# Altium integrated library My_Miscellaneous Connectors.IntLib: 31 symbols
Pins are listed as number, name and electrical type; pins without a type are passive.

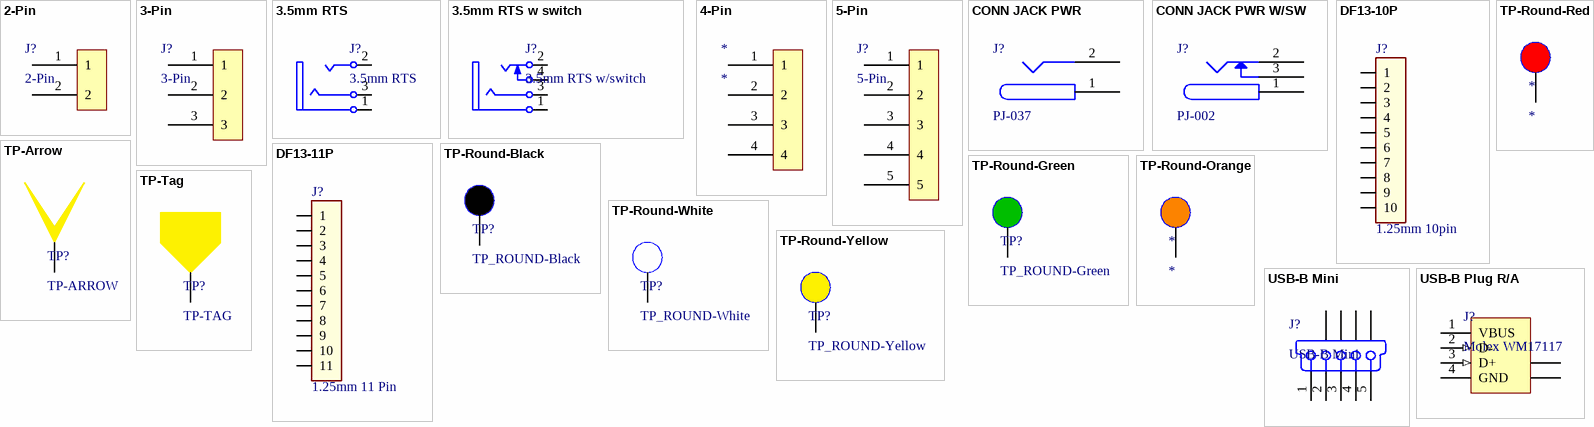
[diagram p0: symbols 2-Pin to USB-B Plug R/A]

## 2-Pin
designator J?
footprint PHOENIX2X0.2
footprint PHOENIX2X0.2LGPINS
footprint WIRES-2
footprint DF13-2P
footprint DF3A-2P
footprint PHOENIX2X0.1 (2 pin 0.1in lead spacing wire to board connector)
pins: 1 "Pin 1", 2 "Pin 2"

## 3-Pin
designator J?
footprint PHOENIX3X0.2
footprint PHOENIX3X0.2LGPINS
footprint DF3A-3P
pins: 1 "Pin 1", 2 "Pin 2", 3 "Pin 3"

## 3.5mm RTS
designator J?
footprint 3.5MM-SM-3PAD
pins: 1 GND "Sleeve (Ground)", 2 Tip "Tip/Left Channel/(+)", 3 Ring "Ring/Right Channel/(-)"

## 3.5mm RTS w switch
designator J?, comment 3.5mm RTS w/switch
footprint 3.5mm-SM-4PAD (3.5mm RTS + SW)
pins: 1 GND "Sleeve (Ground)", 2 Tip "Tip/Left Channel/(+)", 3 Ring "Ring/Right Channel/(-)", 4 SW "Tip Normal (Break Contact)"

## 4-Pin
designator *
footprint PHOENIX4X0.2LGPINSRTL (4 Pin Right Angle Male Rect Phoenix)
pins: 1 "Pin 1", 2 "Pin 2", 3 "Pin 3", 4 "Pin 4"

## 5-Pin
designator J?
footprint DF3A-5P
pins: 1 "Pin 1", 2 "Pin 2", 3 "Pin 3", 4 "Pin 4", 5 "Pin 5"

## CONN JACK PWR
designator J?, comment PJ-037
footprint PJ-037
pins: 1, 2

## CONN JACK PWR W/SW
designator J?, comment PJ-002
footprint PJ-002
pins: 1, 2, 3

## DF13-10P
designator J?, comment 1.25mm 10pin
footprint DF13-10P
pins: 1, 2, 3, 4, 5, 6, 7, 8, 9, 10

## DF13-11P
designator J?, comment 1.25mm 11 Pin
footprint DF13-11P
pins: 1, 2, 3, 4, 5, 6, 7, 8, 9, 10, 11

## TP-Arrow
designator TP?, comment TP-ARROW
footprint TP-.038 (Test Point with 38 mil hole)
footprint TP-.050 (Test Point with 50mil hole)
footprint TP-.063 (Test Point with 63 mil hole)
pins: 1 "Pin 1"

## TP-Round-Black
designator TP?, comment TP_ROUND-Black
footprint TP-.038 (Test Point with 38 mil hole)
footprint TP-.050 (Test Point with 50mil hole)
footprint TP-.063 (Test Point with 63 mil hole)
pins: 1 "Pin 1"

## TP-Round-Green
designator TP?, comment TP_ROUND-Green
footprint TP-.038 (Test Point with 38 mil hole)
footprint TP-.050 (Test Point with 50mil hole)
footprint TP-.063 (Test Point with 63 mil hole)
pins: 1 "Pin 1"

## TP-Round-Orange
designator *
footprint TP-.038 (Test Point with 38 mil hole)
footprint TP-.050 (Test Point with 50mil hole)
footprint TP-.063 (Test Point with 63 mil hole)
pins: 1 "Pin 1"

## TP-Round-Red
designator *
footprint TP-.063 (Test Point with 63 mil hole)
footprint TP-.038 (Test Point with 38 mil hole)
footprint TP-.050 (Test Point with 50mil hole)
pins: 1 "Pin 1"

## TP-Round-White
designator TP?, comment TP_ROUND-White
footprint TP-.038 (Test Point with 38 mil hole)
footprint TP-.050 (Test Point with 50mil hole)
footprint TP-.063 (Test Point with 63 mil hole)
pins: 1 "Pin 1"

## TP-Round-Yellow
designator TP?, comment TP_ROUND-Yellow
footprint TP-.038 (Test Point with 38 mil hole)
footprint TP-.050 (Test Point with 50mil hole)
footprint TP-.063 (Test Point with 63 mil hole)
pins: 1 "Pin 1"

## TP-Tag
designator TP?, comment TP-TAG
footprint TP-.038 (Test Point with 38 mil hole)
footprint TP-.050 (Test Point with 50mil hole)
footprint TP-.063 (Test Point with 63 mil hole)
pins: 1 "Pin 1"

## USB-B Mini
designator J?
footprint USB-B-Mini
pins: 1 V BUS (5V) "USB Vcc [Red]", 2 D- "USB Data - [White]", 3 D+ "USB Data + [Green]", 4 NC "Not Connected (or joined to pin 5 via resistor)", 5 GND "Ground [Black]", MH Tab "Shell", MH Tab "Shell", MH Tab "Shell", MH Tab "Shell"

## USB-B Plug R/A
designator J?, comment Molex WM17117
footprint USB-B Plug (USB B Plug Right Angle)
pins: 1 VBUS (power) "Power", 2 D- (in) "-DATA", 3 D+ (in) "+DATA", 4 GND (power) "Ground", 5 SHLD "Shield", 6 SHLD "Shield"


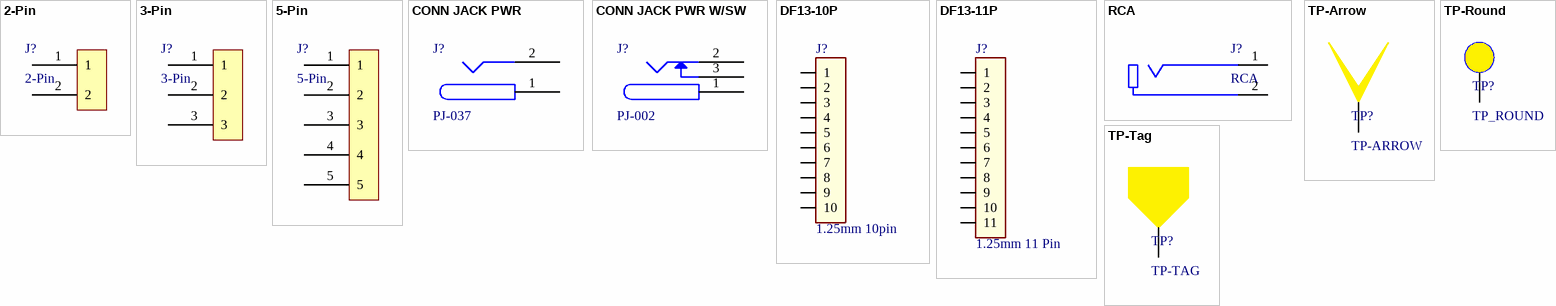
[diagram p1: symbols 2-Pin to TP-Tag]

## 2-Pin
designator J?
footprint PHOENIX2X0.2
footprint PHOENIX2X0.2LGPINS
footprint WIRES-2
footprint DF13-2P
footprint DF3A-2P
pins: 1 "Pin 1", 2 "Pin 2"

## 3-Pin
designator J?
footprint PHOENIX3X0.2
footprint PHOENIX3X0.2LGPINS
footprint DF3A-3P
pins: 1 "Pin 1", 2 "Pin 2", 3 "Pin 3"

## 5-Pin
designator J?
footprint DF3A-5P
pins: 1 "Pin 1", 2 "Pin 2", 3 "Pin 3", 4 "Pin 4", 5 "Pin 5"

## CONN JACK PWR
designator J?, comment PJ-037
footprint PJ-037
pins: 1, 2

## CONN JACK PWR W/SW
designator J?, comment PJ-002
footprint PJ-002
pins: 1, 2, 3

## DF13-10P
designator J?, comment 1.25mm 10pin
footprint DF13-10P
pins: 1, 2, 3, 4, 5, 6, 7, 8, 9, 10

## DF13-11P
designator J?, comment 1.25mm 11 Pin
footprint DF13-11P
pins: 1, 2, 3, 4, 5, 6, 7, 8, 9, 10, 11

## RCA
designator J?
footprint RCA-SM (RCA SM-Female CUI RCJ-01X)
footprint RCA-TH-RA (RCA right angle thru hole)
footprint RCA-TH-Vertical (RCA female vertical mount Thru Hole)
pins: 1 "Pin 1", 2 "Pin 1"

## TP-Arrow
designator TP?, comment TP-ARROW
footprint TP-.038 (Test Point with 38 mil hole)
footprint TP-.050 (Test Point with 50mil hole)
footprint TP-.063 (Test Point with 63 mil hole)
pins: 1 "Pin 1"

## TP-Round
designator TP?, comment TP_ROUND
footprint TP-.038 (Test Point with 38 mil hole)
footprint TP-.050 (Test Point with 50mil hole)
footprint TP-.063 (Test Point with 63 mil hole)
pins: 1 "Pin 1"

## TP-Tag
designator TP?, comment TP-TAG
footprint TP-.038 (Test Point with 38 mil hole)
footprint TP-.050 (Test Point with 50mil hole)
footprint TP-.063 (Test Point with 63 mil hole)
pins: 1 "Pin 1"